# Altium integrated library TI Amplifiers and Linear Operational Amplifier High Speed.IntLib: 1100 symbols (part 43 of 44)
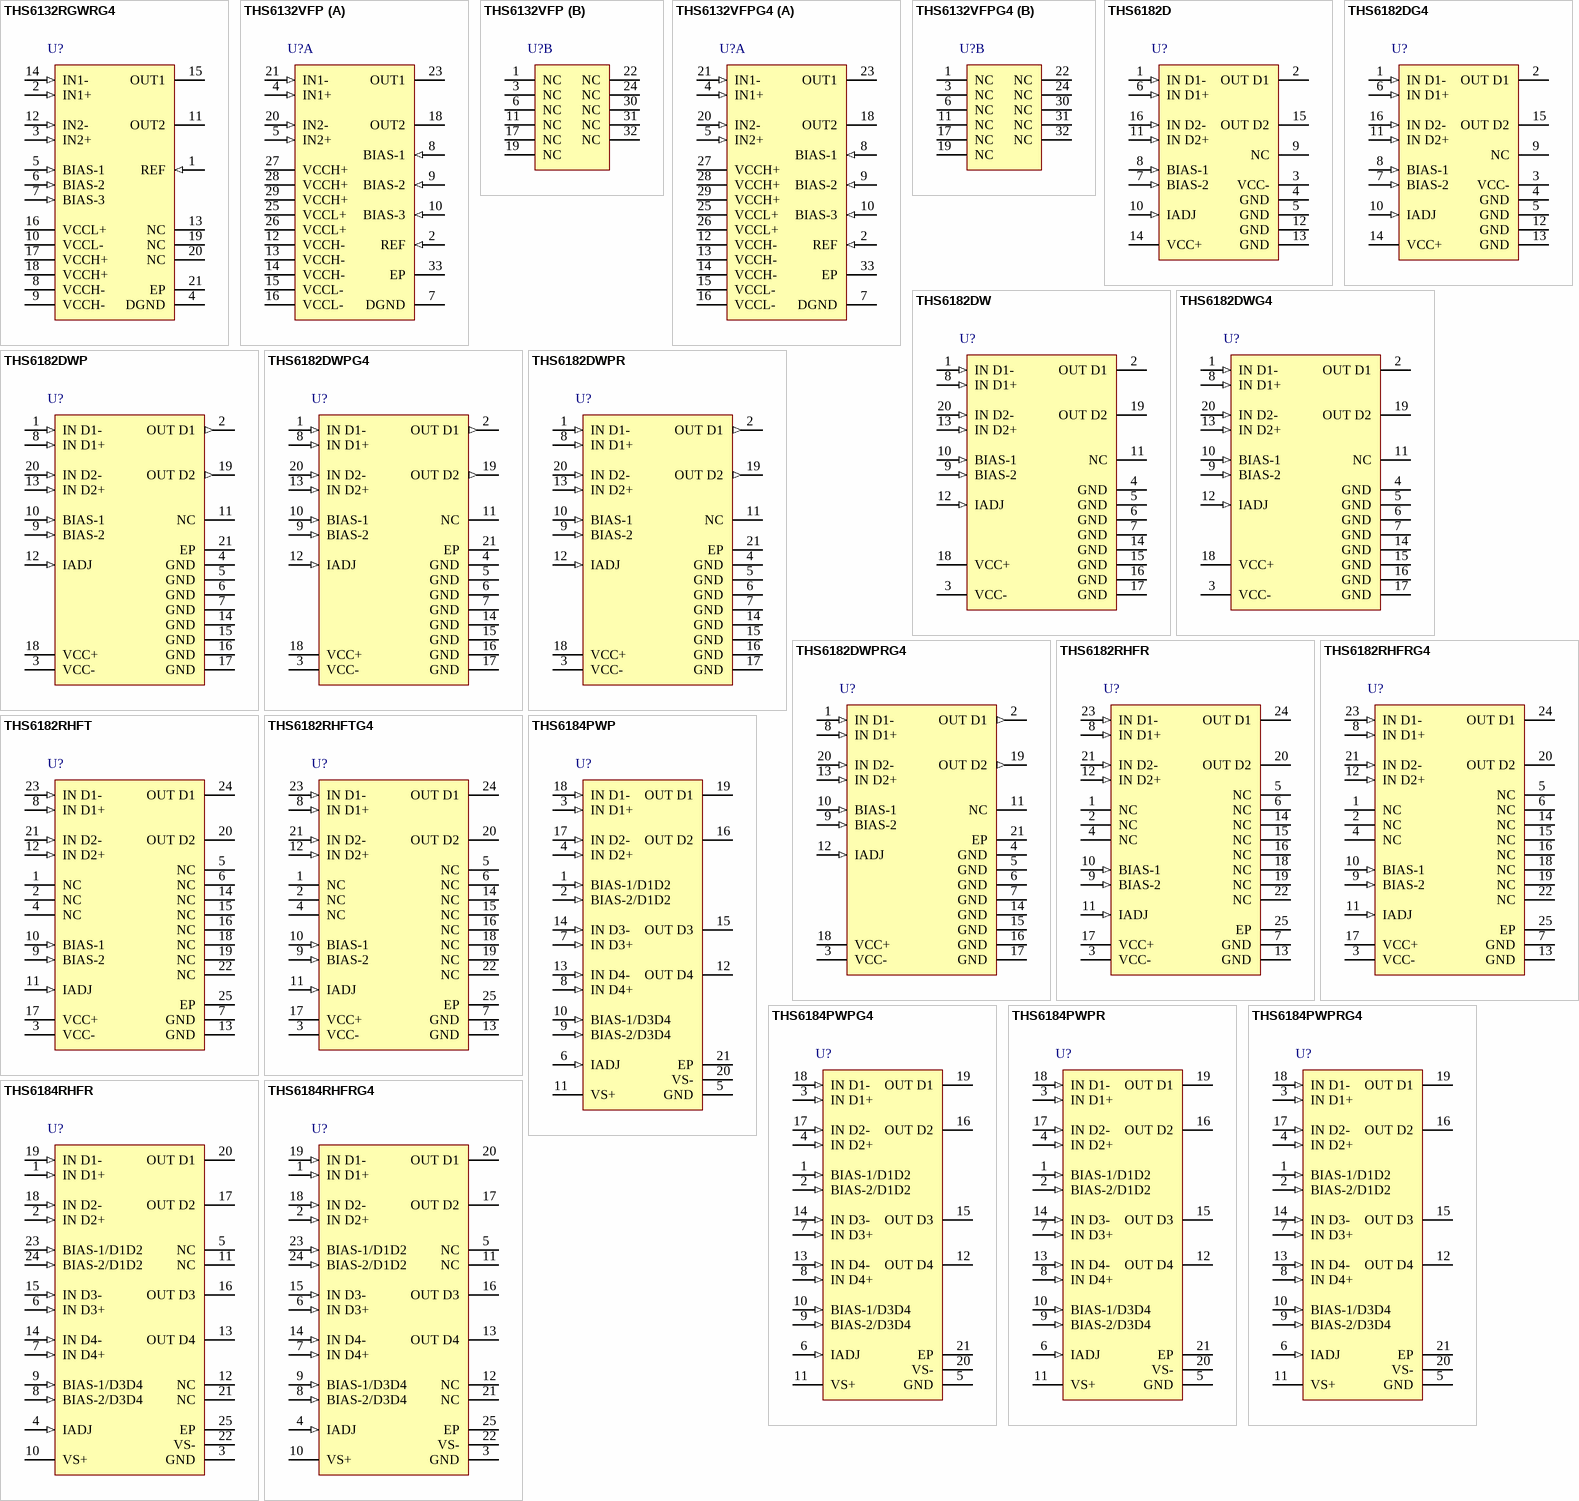
[diagram p93: symbols THS6132RGWRG4 to THS6184RHFRG4]

## THS6182RHFRG4
designator U?
Low Power Dissipation ADSL Line Driver, 10 to 30 V, -40 to 85 degC, 24-pin QFN (RHF24), Green (RoHS & no Sb/Br); Manufacturer: Texas Instruments; PartNumber: THS6182RHFRG4; 2nd Harmonic(dBc): 88; 3rd Harmonic(dBc): 107; @ MHz: 1; BW @ Acl(MHz): 100; Iib(Max)(nA): 20000; Io(Typ)(mA): 600; Iq per channel(Max)(mA): 12.5; Number of Channels: 2; Slew Rate(Typ)(V/us): 450; Sub Family: High Output Current Amplifier (>=50mA), High Speed Amplifier (>=50MHz), High Supply Voltage Amplifier (>=30V); THD (Fc is 1 MHz)(Typ)(dB): -88; Vio(Max)(mV): 20; Vn at Flatband(Typ)(nV/rtHz): 3.2; Vs(Max)(V): 30; Vs(Min)(V): 10; DatasheetVersion: SLLS544H; PackageVersion: 4204845-2/H, 06/2011; PackageReference: RHF24-3650X2650TP; PackageDescription: 24-Pin Plastic Flat Pack, Body 4 x 5 mm, Pitch 0.5 mm; Supplier 1: Digi-Key; Supplier Part Number 1: THS6182RHFRG4-ND; Supplier 2: Newark; Supplier Part Number 2: 85K1610; Supplier 3: Mouser; Supplier Part Number 3: 595-THS6182RHFRG4; Acl, min stable gain(V/V): 1; Eco-Plan: Green (RoHS & no Sb/Br); Mounting Technology: Surface Mount; Code_JEDEC: MO-220; ComponentLink1Description: Manufacturer URL; ComponentLink1URL: http://www.ti.com/; ComponentLink2Description: Datasheet; ComponentLink2URL: http://www.ti.com/general/docs/lit/getliterature.tsp?genericPartNumber=THS6182&fileType=pdf; ComponentLink3Description: Package Specification; ComponentLink3URL: http://www.ti.com/litv/pdf/mpqf137g
footprint TI-RHF24-3650X2650TP_V (QFN, 24-Leads, Body 5x4mm, Pitch 0.5mm, Thermal Pad 3.65x2.65mm)
pins: 1 NC, 2 NC, 3 VCC- (power), 4 NC, 5 NC, 6 NC, 7 GND (power), 8 IN D1+ (in), 9 BIAS-2 (in), 10 BIAS-1 (in), 11 IADJ (in), 12 IN D2+ (in), 13 GND (power), 14 NC, 15 NC, 16 NC, 17 VCC+ (power), 18 NC, 19 NC, 20 OUT D2 (hiz), 21 IN D2- (in), 22 NC, 23 IN D1- (in), 24 OUT D1 (hiz), 25 EP (power)

## THS6182RHFT
designator U?
Low Power Dissipation ADSL Line Driver, 10 to 30 V, -40 to 85 degC, 24-pin QFN (RHF24), Green (RoHS & no Sb/Br); Manufacturer: Texas Instruments; PartNumber: THS6182RHFT; 2nd Harmonic(dBc): 88; 3rd Harmonic(dBc): 107; @ MHz: 1; BW @ Acl(MHz): 100; Iib(Max)(nA): 20000; Io(Typ)(mA): 600; Iq per channel(Max)(mA): 12.5; Number of Channels: 2; Slew Rate(Typ)(V/us): 450; Sub Family: High Output Current Amplifier (>=50mA), High Speed Amplifier (>=50MHz), High Supply Voltage Amplifier (>=30V); THD (Fc is 1 MHz)(Typ)(dB): -88; Vio(Max)(mV): 20; Vn at Flatband(Typ)(nV/rtHz): 3.2; Vs(Max)(V): 30; Vs(Min)(V): 10; DatasheetVersion: SLLS544H; PackageVersion: 4204845-2/H, 06/2011; PackageReference: RHF24-3650X2650TP; PackageDescription: 24-Pin Plastic Flat Pack, Body 4 x 5 mm, Pitch 0.5 mm; Supplier 1: Digi-Key; Supplier Part Number 1: THS6182RHFT-ND; Supplier 2: Mouser; Supplier Part Number 2: 595-THS6182RHFT; Acl, min stable gain(V/V): 1; Eco-Plan: Green (RoHS & no Sb/Br); Mounting Technology: Surface Mount; Code_JEDEC: MO-220; ComponentLink1Description: Manufacturer URL; ComponentLink1URL: http://www.ti.com/; ComponentLink2Description: Datasheet; ComponentLink2URL: http://www.ti.com/general/docs/lit/getliterature.tsp?genericPartNumber=THS6182&fileType=pdf; ComponentLink3Description: Package Specification; ComponentLink3URL: http://www.ti.com/litv/pdf/mpqf137g
footprint TI-RHF24-3650X2650TP_V (QFN, 24-Leads, Body 5x4mm, Pitch 0.5mm, Thermal Pad 3.65x2.65mm)
pins: 1 NC, 2 NC, 3 VCC- (power), 4 NC, 5 NC, 6 NC, 7 GND (power), 8 IN D1+ (in), 9 BIAS-2 (in), 10 BIAS-1 (in), 11 IADJ (in), 12 IN D2+ (in), 13 GND (power), 14 NC, 15 NC, 16 NC, 17 VCC+ (power), 18 NC, 19 NC, 20 OUT D2 (hiz), 21 IN D2- (in), 22 NC, 23 IN D1- (in), 24 OUT D1 (hiz), 25 EP (power)

## THS6182RHFTG4
designator U?
Low Power Dissipation ADSL Line Driver, 10 to 30 V, -40 to 85 degC, 24-pin QFN (RHF24), Green (RoHS & no Sb/Br); Manufacturer: Texas Instruments; PartNumber: THS6182RHFTG4; 2nd Harmonic(dBc): 88; 3rd Harmonic(dBc): 107; @ MHz: 1; BW @ Acl(MHz): 100; Iib(Max)(nA): 15000; Io(Typ)(mA): 600; Iq per channel(Max)(mA): 12.5; Number of Channels: 2; Slew Rate(Typ)(V/us): 450; Sub Family: High Output Current Amplifier (>=50mA), High Speed Amplifier (>=50MHz), High Supply Voltage Amplifier (>=30V); THD (Fc is 1 MHz)(Typ)(dB): -88; Vio(Max)(mV): 20; Vn at Flatband(Typ)(nV/rtHz): 3.2; Vs(Max)(V): 30; Vs(Min)(V): 10; DatasheetVersion: SLLS544H; PackageVersion: 4204845-2/H, 06/2011; PackageReference: RHF24-3650X2650TP; PackageDescription: 24-Pin Plastic Flat Pack, Body 4 x 5 mm, Pitch 0.5 mm; Supplier 1: Digi-Key; Supplier Part Number 1: THS6182RHFTG4-ND; Supplier 2: Newark; Supplier Part Number 2: 54K0778; Supplier 3: Mouser; Supplier Part Number 3: 595-THS6182RHFTG4; Acl, min stable gain(V/V): 1; Eco-Plan: Green (RoHS & no Sb/Br); Mounting Technology: Surface Mount; Code_JEDEC: MO-220; ComponentLink1Description: Manufacturer URL; ComponentLink1URL: http://www.ti.com/; ComponentLink2Description: Datasheet; ComponentLink2URL: http://www.ti.com/general/docs/lit/getliterature.tsp?genericPartNumber=THS6182&fileType=pdf; ComponentLink3Description: Package Specification; ComponentLink3URL: http://www.ti.com/litv/pdf/mpqf137g
footprint TI-RHF24-3650X2650TP_V (QFN, 24-Leads, Body 5x4mm, Pitch 0.5mm, Thermal Pad 3.65x2.65mm)
pins: 1 NC, 2 NC, 3 VCC- (power), 4 NC, 5 NC, 6 NC, 7 GND (power), 8 IN D1+ (in), 9 BIAS-2 (in), 10 BIAS-1 (in), 11 IADJ (in), 12 IN D2+ (in), 13 GND (power), 14 NC, 15 NC, 16 NC, 17 VCC+ (power), 18 NC, 19 NC, 20 OUT D2 (hiz), 21 IN D2- (in), 22 NC, 23 IN D1- (in), 24 OUT D1 (hiz), 25 EP (power)

## THS6184PWP
designator U?
xDSL Line Driver, 8 to 32 V, -40 to 85 degC, 20-pin SOP (PWP20), Green (RoHS & no Sb/Br); Manufacturer: Texas Instruments; PartNumber: THS6184PWP; Acl, min stable gain(V/V): 1; BW @ Acl(MHz): 50; Iib(Max)(nA): 15; Io(Typ)(mA): 500; Iq per channel(Max)(mA): 4.2; Number of Channels: 4; Slew Rate(Typ)(V/us): 400; Sub Family: High Output Current Amplifier (>=50mA), High Speed Amplifier (>=50MHz); Vio(Max)(mV): 16; Vn at Flatband(Typ)(nV/rtHz): 2.9; DatasheetVersion: SLLS635D; PackageVersion: 4073225-4/I, 05/2011; PackageReference: PWP20-2965X2290TP; PackageDescription: 20-Pin Plastic Small Outline, Body 4.4 x 6.5 mm, Pitch 0.65 mm; Supplier 1: Digi-Key; Supplier Part Number 1: 296-21670-5-ND; Supplier 2: Farnell; Supplier Part Number 2: 1755442; Supplier 3: Newark; Supplier Part Number 3: 37M0029; Supplier 4: Mouser; Supplier Part Number 4: 595-THS6184PWP; Eco-Plan: Green (RoHS & no Sb/Br); Mounting Technology: Surface Mount; Code_JEDEC: MO-153; ComponentLink1Description: Manufacturer URL; ComponentLink1URL: http://www.ti.com/; ComponentLink2Description: Datasheet; ComponentLink2URL: http://www.ti.com/general/docs/lit/getliterature.tsp?genericPartNumber=THS6184&fileType=pdf; ComponentLink3Description: Package Specification; ComponentLink3URL: http://www.ti.com/litv/pdf/mhts001g
footprint TI-PWP20-2965X2290TP_N (SOP, 20-Leads, Body 6.5x4.4mm, Pitch 0.65mm, Thermal Pad 2.965x2.29mm, IPC Medium Density)
footprint TI-PWP20-2965X2290TP_L (SOP, 20-Leads, Body 6.5x4.4mm, Pitch 0.65mm, Thermal Pad 2.965x2.29mm, IPC High Density)
footprint TI-PWP20-2965X2290TP_M (SOP, 20-Leads, Body 6.5x4.4mm, Pitch 0.65mm, Thermal Pad 2.965x2.29mm, IPC Low Density)
pins: 1 BIAS-1/D1D2 (in), 2 BIAS-2/D1D2 (in), 3 IN D1+ (in), 4 IN D2+ (in), 5 GND (power), 6 IADJ (in), 7 IN D3+ (in), 8 IN D4+ (in), 9 BIAS-2/D3D4 (in), 10 BIAS-1/D3D4 (in), 11 VS+ (power), 12 OUT D4 (hiz), 13 IN D4- (in), 14 IN D3- (in), 15 OUT D3 (hiz), 16 OUT D2 (hiz), 17 IN D2- (in), 18 IN D1- (in), 19 OUT D1 (hiz), 20 VS- (power), 21 EP (power)

## THS6184PWPG4
designator U?
xDSL Line Driver, 8 to 32 V, -40 to 85 degC, 20-pin SOP (PWP20), Green (RoHS & no Sb/Br); Manufacturer: Texas Instruments; PartNumber: THS6184PWPG4; Acl, min stable gain(V/V): 1; BW @ Acl(MHz): 50; Iib(Max)(nA): 15; Io(Typ)(mA): 500; Iq per channel(Max)(mA): 4.2; Number of Channels: 4; Slew Rate(Typ)(V/us): 400; Sub Family: High Output Current Amplifier (>=50mA), High Speed Amplifier (>=50MHz); Vio(Max)(mV): 16; Vn at Flatband(Typ)(nV/rtHz): 2.9; DatasheetVersion: SLLS635D; PackageVersion: 4073225-4/I, 05/2011; PackageReference: PWP20-2965X2290TP; PackageDescription: 20-Pin Plastic Small Outline, Body 4.4 x 6.5 mm, Pitch 0.65 mm; Supplier 1: Digi-Key; Supplier Part Number 1: THS6184PWPG4-ND; Supplier 2: Mouser; Supplier Part Number 2: 595-THS6184PWPG4; Eco-Plan: Green (RoHS & no Sb/Br); Mounting Technology: Surface Mount; Code_JEDEC: MO-153; ComponentLink1Description: Manufacturer URL; ComponentLink1URL: http://www.ti.com/; ComponentLink2Description: Datasheet; ComponentLink2URL: http://www.ti.com/general/docs/lit/getliterature.tsp?genericPartNumber=THS6184&fileType=pdf; ComponentLink3Description: Package Specification; ComponentLink3URL: http://www.ti.com/litv/pdf/mhts001g
footprint TI-PWP20-2965X2290TP_N (SOP, 20-Leads, Body 6.5x4.4mm, Pitch 0.65mm, Thermal Pad 2.965x2.29mm, IPC Medium Density)
footprint TI-PWP20-2965X2290TP_L (SOP, 20-Leads, Body 6.5x4.4mm, Pitch 0.65mm, Thermal Pad 2.965x2.29mm, IPC High Density)
footprint TI-PWP20-2965X2290TP_M (SOP, 20-Leads, Body 6.5x4.4mm, Pitch 0.65mm, Thermal Pad 2.965x2.29mm, IPC Low Density)
pins: 1 BIAS-1/D1D2 (in), 2 BIAS-2/D1D2 (in), 3 IN D1+ (in), 4 IN D2+ (in), 5 GND (power), 6 IADJ (in), 7 IN D3+ (in), 8 IN D4+ (in), 9 BIAS-2/D3D4 (in), 10 BIAS-1/D3D4 (in), 11 VS+ (power), 12 OUT D4 (hiz), 13 IN D4- (in), 14 IN D3- (in), 15 OUT D3 (hiz), 16 OUT D2 (hiz), 17 IN D2- (in), 18 IN D1- (in), 19 OUT D1 (hiz), 20 VS- (power), 21 EP (power)

## THS6184PWPR
designator U?
xDSL Line Driver, 8 to 32 V, -40 to 85 degC, 20-pin SOP (PWP20), Green (RoHS & no Sb/Br); Manufacturer: Texas Instruments; PartNumber: THS6184PWPR; Acl, min stable gain(V/V): 1; BW @ Acl(MHz): 50; Iib(Max)(nA): 15; Io(Typ)(mA): 500; Iq per channel(Max)(mA): 4.2; Number of Channels: 4; Slew Rate(Typ)(V/us): 400; Sub Family: High Output Current Amplifier (>=50mA), High Speed Amplifier (>=50MHz); Vio(Max)(mV): 16; Vn at Flatband(Typ)(nV/rtHz): 2.9; DatasheetVersion: SLLS635D; PackageVersion: 4073225-4/I, 05/2011; PackageReference: PWP20-2965X2290TP; PackageDescription: 20-Pin Plastic Small Outline, Body 4.4 x 6.5 mm, Pitch 0.65 mm; Supplier 1: Digi-Key; Supplier Part Number 1: THS6184PWPR-ND; Supplier 2: Mouser; Supplier Part Number 2: 595-THS6184PWPR; Eco-Plan: Green (RoHS & no Sb/Br); Mounting Technology: Surface Mount; Code_JEDEC: MO-153; ComponentLink1Description: Manufacturer URL; ComponentLink1URL: http://www.ti.com/; ComponentLink2Description: Datasheet; ComponentLink2URL: http://www.ti.com/general/docs/lit/getliterature.tsp?genericPartNumber=THS6184&fileType=pdf; ComponentLink3Description: Package Specification; ComponentLink3URL: http://www.ti.com/litv/pdf/mhts001g
footprint TI-PWP20-2965X2290TP_N (SOP, 20-Leads, Body 6.5x4.4mm, Pitch 0.65mm, Thermal Pad 2.965x2.29mm, IPC Medium Density)
footprint TI-PWP20-2965X2290TP_L (SOP, 20-Leads, Body 6.5x4.4mm, Pitch 0.65mm, Thermal Pad 2.965x2.29mm, IPC High Density)
footprint TI-PWP20-2965X2290TP_M (SOP, 20-Leads, Body 6.5x4.4mm, Pitch 0.65mm, Thermal Pad 2.965x2.29mm, IPC Low Density)
pins: 1 BIAS-1/D1D2 (in), 2 BIAS-2/D1D2 (in), 3 IN D1+ (in), 4 IN D2+ (in), 5 GND (power), 6 IADJ (in), 7 IN D3+ (in), 8 IN D4+ (in), 9 BIAS-2/D3D4 (in), 10 BIAS-1/D3D4 (in), 11 VS+ (power), 12 OUT D4 (hiz), 13 IN D4- (in), 14 IN D3- (in), 15 OUT D3 (hiz), 16 OUT D2 (hiz), 17 IN D2- (in), 18 IN D1- (in), 19 OUT D1 (hiz), 20 VS- (power), 21 EP (power)

## THS6184PWPRG4
designator U?
xDSL Line Driver, 8 to 32 V, -40 to 85 degC, 20-pin SOP (PWP20), Green (RoHS & no Sb/Br); Manufacturer: Texas Instruments; PartNumber: THS6184PWPRG4; Acl, min stable gain(V/V): 1; BW @ Acl(MHz): 50; Iib(Max)(nA): 15; Io(Typ)(mA): 500; Iq per channel(Max)(mA): 4.2; Number of Channels: 4; Slew Rate(Typ)(V/us): 400; Sub Family: High Output Current Amplifier (>=50mA), High Speed Amplifier (>=50MHz); Vio(Max)(mV): 16; Vn at Flatband(Typ)(nV/rtHz): 2.9; DatasheetVersion: SLLS635D; PackageVersion: 4073225-4/I, 05/2011; PackageReference: PWP20-2965X2290TP; PackageDescription: 20-Pin Plastic Small Outline, Body 4.4 x 6.5 mm, Pitch 0.65 mm; Supplier 1: Digi-Key; Supplier Part Number 1: THS6184PWPRG4-ND; Supplier 2: Mouser; Supplier Part Number 2: 595-THS6184PWPRG4; Eco-Plan: Green (RoHS & no Sb/Br); Mounting Technology: Surface Mount; Code_JEDEC: MO-153; ComponentLink1Description: Manufacturer URL; ComponentLink1URL: http://www.ti.com/; ComponentLink2Description: Datasheet; ComponentLink2URL: http://www.ti.com/general/docs/lit/getliterature.tsp?genericPartNumber=THS6184&fileType=pdf; ComponentLink3Description: Package Specification; ComponentLink3URL: http://www.ti.com/litv/pdf/mhts001g
footprint TI-PWP20-2965X2290TP_N (SOP, 20-Leads, Body 6.5x4.4mm, Pitch 0.65mm, Thermal Pad 2.965x2.29mm, IPC Medium Density)
footprint TI-PWP20-2965X2290TP_L (SOP, 20-Leads, Body 6.5x4.4mm, Pitch 0.65mm, Thermal Pad 2.965x2.29mm, IPC High Density)
footprint TI-PWP20-2965X2290TP_M (SOP, 20-Leads, Body 6.5x4.4mm, Pitch 0.65mm, Thermal Pad 2.965x2.29mm, IPC Low Density)
pins: 1 BIAS-1/D1D2 (in), 2 BIAS-2/D1D2 (in), 3 IN D1+ (in), 4 IN D2+ (in), 5 GND (power), 6 IADJ (in), 7 IN D3+ (in), 8 IN D4+ (in), 9 BIAS-2/D3D4 (in), 10 BIAS-1/D3D4 (in), 11 VS+ (power), 12 OUT D4 (hiz), 13 IN D4- (in), 14 IN D3- (in), 15 OUT D3 (hiz), 16 OUT D2 (hiz), 17 IN D2- (in), 18 IN D1- (in), 19 OUT D1 (hiz), 20 VS- (power), 21 EP (power)

## THS6184RHFR
designator U?
xDSL Line Driver, 8 to 32 V, -40 to 85 degC, 24-pin QFN (RHF24), Green (RoHS & no Sb/Br); Manufacturer: Texas Instruments; PartNumber: THS6184RHFR; Acl, min stable gain(V/V): 1; BW @ Acl(MHz): 50; Iib(Max)(nA): 15; Io(Typ)(mA): 500; Iq per channel(Max)(mA): 4.2; Number of Channels: 4; Slew Rate(Typ)(V/us): 400; Sub Family: High Output Current Amplifier (>=50mA), High Speed Amplifier (>=50MHz); Vio(Max)(mV): 16; Vn at Flatband(Typ)(nV/rtHz): 2.9; DatasheetVersion: SLLS635D; PackageVersion: 4204845-2/H, 06/2011; PackageReference: RHF24-3650X2650TP; PackageDescription: 24-Pin Plastic Flat Pack, Body 4 x 5 mm, Pitch 0.5 mm; Supplier 1: Digi-Key; Supplier Part Number 1: THS6184RHFR-ND; Supplier 2: Newark; Supplier Part Number 2: 24K5087; Supplier 3: Mouser; Supplier Part Number 3: 595-THS6184RHFR; Eco-Plan: Green (RoHS & no Sb/Br); Mounting Technology: Surface Mount; Code_JEDEC: MO-220; ComponentLink1Description: Manufacturer URL; ComponentLink1URL: http://www.ti.com/; ComponentLink2Description: Datasheet; ComponentLink2URL: http://www.ti.com/general/docs/lit/getliterature.tsp?genericPartNumber=THS6184&fileType=pdf; ComponentLink3Description: Package Specification; ComponentLink3URL: http://www.ti.com/litv/pdf/mpqf137g
footprint TI-RHF24-3650X2650TP_V (QFN, 24-Leads, Body 5x4mm, Pitch 0.5mm, Thermal Pad 3.65x2.65mm)
pins: 1 IN D1+ (in), 2 IN D2+ (in), 3 GND (power), 4 IADJ (in), 5 NC, 6 IN D3+ (in), 7 IN D4+ (in), 8 BIAS-2/D3D4 (in), 9 BIAS-1/D3D4 (in), 10 VS+ (power), 11 NC, 12 NC, 13 OUT D4 (hiz), 14 IN D4- (in), 15 IN D3- (in), 16 OUT D3 (hiz), 17 OUT D2 (hiz), 18 IN D2- (in), 19 IN D1- (in), 20 OUT D1 (hiz), 21 NC, 22 VS- (power), 23 BIAS-1/D1D2 (in), 24 BIAS-2/D1D2 (in), 25 EP (power)

## THS6184RHFRG4
designator U?
xDSL Line Driver, 8 to 32 V, -40 to 85 degC, 24-pin QFN (RHF24), Green (RoHS & no Sb/Br); Manufacturer: Texas Instruments; PartNumber: THS6184RHFRG4; Acl, min stable gain(V/V): 1; BW @ Acl(MHz): 50; Iib(Max)(nA): 15; Io(Typ)(mA): 500; Iq per channel(Max)(mA): 4.2; Number of Channels: 4; Slew Rate(Typ)(V/us): 400; Sub Family: High Output Current Amplifier (>=50mA), High Speed Amplifier (>=50MHz); Vio(Max)(mV): 16; Vn at Flatband(Typ)(nV/rtHz): 2.9; DatasheetVersion: SLLS635D; PackageVersion: 4204845-2/H, 06/2011; PackageReference: RHF24-3650X2650TP; PackageDescription: 24-Pin Plastic Flat Pack, Body 4 x 5 mm, Pitch 0.5 mm; Supplier 1: Digi-Key; Supplier Part Number 1: THS6184RHFRG4-ND; Supplier 2: Mouser; Supplier Part Number 2: 595-THS6184RHFRG4; Eco-Plan: Green (RoHS & no Sb/Br); Mounting Technology: Surface Mount; Code_JEDEC: MO-220; ComponentLink1Description: Manufacturer URL; ComponentLink1URL: http://www.ti.com/; ComponentLink2Description: Datasheet; ComponentLink2URL: http://www.ti.com/general/docs/lit/getliterature.tsp?genericPartNumber=THS6184&fileType=pdf; ComponentLink3Description: Package Specification; ComponentLink3URL: http://www.ti.com/litv/pdf/mpqf137g
footprint TI-RHF24-3650X2650TP_V (QFN, 24-Leads, Body 5x4mm, Pitch 0.5mm, Thermal Pad 3.65x2.65mm)
pins: 1 IN D1+ (in), 2 IN D2+ (in), 3 GND (power), 4 IADJ (in), 5 NC, 6 IN D3+ (in), 7 IN D4+ (in), 8 BIAS-2/D3D4 (in), 9 BIAS-1/D3D4 (in), 10 VS+ (power), 11 NC, 12 NC, 13 OUT D4 (hiz), 14 IN D4- (in), 15 IN D3- (in), 16 OUT D3 (hiz), 17 OUT D2 (hiz), 18 IN D2- (in), 19 IN D1- (in), 20 OUT D1 (hiz), 21 NC, 22 VS- (power), 23 BIAS-1/D1D2 (in), 24 BIAS-2/D1D2 (in), 25 EP (power)

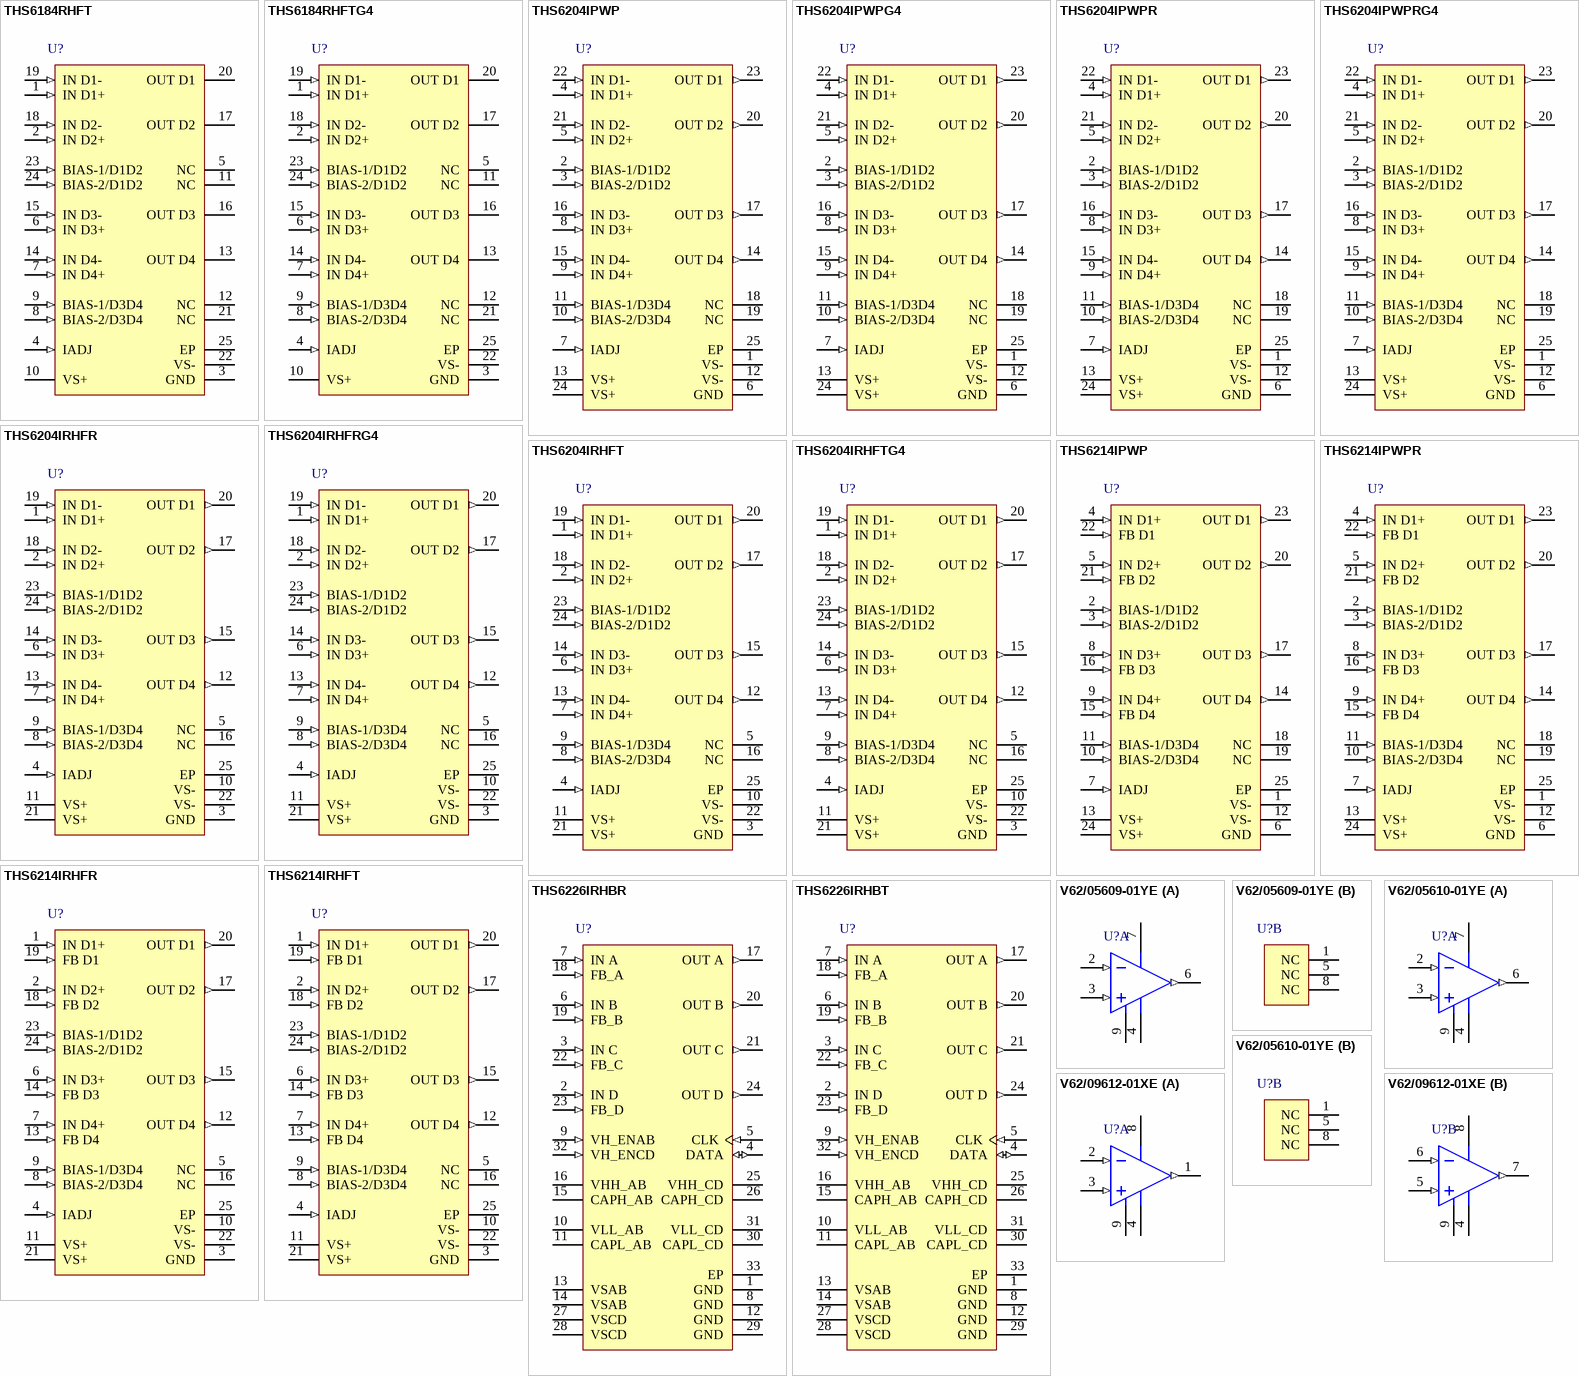
[diagram p51: symbols THS6184RHFT to V62/09612-01XE]

## THS6184RHFT
designator U?
xDSL Line Driver, 8 to 32 V, -40 to 85 degC, 24-pin QFN (RHF24), Green (RoHS & no Sb/Br); Manufacturer: Texas Instruments; PartNumber: THS6184RHFT; Acl, min stable gain(V/V): 1; BW @ Acl(MHz): 50; Iib(Max)(nA): 15; Io(Typ)(mA): 500; Iq per channel(Max)(mA): 4.2; Number of Channels: 4; Slew Rate(Typ)(V/us): 400; Sub Family: High Output Current Amplifier (>=50mA), High Speed Amplifier (>=50MHz); Vio(Max)(mV): 16; Vn at Flatband(Typ)(nV/rtHz): 2.9; DatasheetVersion: SLLS635D; PackageVersion: 4204845-2/H, 06/2011; PackageReference: RHF24-3650X2650TP; PackageDescription: 24-Pin Plastic Flat Pack, Body 4 x 5 mm, Pitch 0.5 mm; Supplier 1: Digi-Key; Supplier Part Number 1: 296-17862-2-ND; Supplier 2: Digi-Key; Supplier Part Number 2: 296-17862-1-ND; Supplier 3: Digi-Key; Supplier Part Number 3: 296-17862-6-ND; Supplier 4: Mouser; Supplier Part Number 4: 595-THS6184RHFT; Eco-Plan: Green (RoHS & no Sb/Br); Mounting Technology: Surface Mount; Code_JEDEC: MO-220; ComponentLink1Description: Manufacturer URL; ComponentLink1URL: http://www.ti.com/; ComponentLink2Description: Datasheet; ComponentLink2URL: http://www.ti.com/general/docs/lit/getliterature.tsp?genericPartNumber=THS6184&fileType=pdf; ComponentLink3Description: Package Specification; ComponentLink3URL: http://www.ti.com/litv/pdf/mpqf137g
footprint TI-RHF24-3650X2650TP_V (QFN, 24-Leads, Body 5x4mm, Pitch 0.5mm, Thermal Pad 3.65x2.65mm)
pins: 1 IN D1+ (in), 2 IN D2+ (in), 3 GND (power), 4 IADJ (in), 5 NC, 6 IN D3+ (in), 7 IN D4+ (in), 8 BIAS-2/D3D4 (in), 9 BIAS-1/D3D4 (in), 10 VS+ (power), 11 NC, 12 NC, 13 OUT D4 (hiz), 14 IN D4- (in), 15 IN D3- (in), 16 OUT D3 (hiz), 17 OUT D2 (hiz), 18 IN D2- (in), 19 IN D1- (in), 20 OUT D1 (hiz), 21 NC, 22 VS- (power), 23 BIAS-1/D1D2 (in), 24 BIAS-2/D1D2 (in), 25 EP (power)

## THS6184RHFTG4
designator U?
xDSL Line Driver, 8 to 32 V, -40 to 85 degC, 24-pin QFN (RHF24), Green (RoHS & no Sb/Br); Manufacturer: Texas Instruments; PartNumber: THS6184RHFTG4; 2nd Harmonic(dBc): 89; 3rd Harmonic(dBc): 85; @ MHz: 1; BW @ Acl(MHz): 50; Iib(Max)(nA): 15000; Io(Typ)(mA): 416; Iq per channel(Max)(mA): 4.2; Number of Channels: 4; Slew Rate(Typ)(V/us): 275; Sub Family: High Output Current Amplifier (>=50mA), High Speed Amplifier (>=50MHz); THD (Fc is 1 MHz)(Typ)(dB): -83; Vio(Max)(mV): 25; Vn at Flatband(Typ)(nV/rtHz): 3; Vs(Max)(V): 32; Vs(Min)(V): 8; DatasheetVersion: SLLS635D; PackageVersion: 4204845-2/H, 06/2011; PackageReference: RHF24-3650X2650TP; PackageDescription: 24-Pin Plastic Flat Pack, Body 4 x 5 mm, Pitch 0.5 mm; Supplier 1: Digi-Key; Supplier Part Number 1: THS6184RHFTG4-ND; Supplier 2: Mouser; Supplier Part Number 2: 595-THS6184RHFTG4; Acl, min stable gain(V/V): 1; Eco-Plan: Green (RoHS & no Sb/Br); Mounting Technology: Surface Mount; Code_JEDEC: MO-220; ComponentLink1Description: Manufacturer URL; ComponentLink1URL: http://www.ti.com/; ComponentLink2Description: Datasheet; ComponentLink2URL: http://www.ti.com/general/docs/lit/getliterature.tsp?genericPartNumber=THS6184&fileType=pdf; ComponentLink3Description: Package Specification; ComponentLink3URL: http://www.ti.com/litv/pdf/mpqf137g
footprint TI-RHF24-3650X2650TP_V (QFN, 24-Leads, Body 5x4mm, Pitch 0.5mm, Thermal Pad 3.65x2.65mm)
pins: 1 IN D1+ (in), 2 IN D2+ (in), 3 GND (power), 4 IADJ (in), 5 NC, 6 IN D3+ (in), 7 IN D4+ (in), 8 BIAS-2/D3D4 (in), 9 BIAS-1/D3D4 (in), 10 VS+ (power), 11 NC, 12 NC, 13 OUT D4 (hiz), 14 IN D4- (in), 15 IN D3- (in), 16 OUT D3 (hiz), 17 OUT D2 (hiz), 18 IN D2- (in), 19 IN D1- (in), 20 OUT D1 (hiz), 21 NC, 22 VS- (power), 23 BIAS-1/D1D2 (in), 24 BIAS-2/D1D2 (in), 25 EP (power)

## THS6204IPWP
designator U?
Dual Port VDSL2 Line Driver Amplifier, 10 to 28 V, -40 to 85 degC, 24-pin SOP (PWP24), Green (RoHS & no Sb/Br); Manufacturer: Texas Instruments; PartNumber: THS6204IPWP; 2nd Harmonic(dBc): 100; 3rd Harmonic(dBc): 89; @ MHz: 1; Acl, min stable gain(V/V): 2; BW @ Acl(MHz): 160; Iib(Max)(nA): 50000; Io(Typ)(mA): 416; Iq per channel(Max)(mA): 21; Slew Rate(Typ)(V/us): 3800; Sub Family: High Output Current Amplifier (>=50mA), High Speed Amplifier (>=50MHz); Vio(Max)(mV): 60; Vn at Flatband(Typ)(nV/rtHz): 2.5; Vs(Max)(V): 28; Vs(Min)(V): 10; DatasheetVersion: SBOS416C; PackageVersion: 4073225-5/I, 05/2011; PackageReference: PWP24-4420X1950TP; PackageDescription: 24-Pin Plastic Small Outline, Body 4.4 x 7.8 mm, Pitch 0.65 mm; Supplier 1: Digi-Key; Supplier Part Number 1: 296-23694-5-ND; Supplier 2: Farnell; Supplier Part Number 2: 1755276; Supplier 3: Mouser; Supplier Part Number 3: 595-THS6204IPWP; Eco-Plan: Green (RoHS & no Sb/Br); Number of Channels: 2; Mounting Technology: Surface Mount; Code_JEDEC: MO-153; ComponentLink1Description: Manufacturer URL; ComponentLink1URL: http://www.ti.com/; ComponentLink2Description: Datasheet; ComponentLink2URL: http://www.ti.com/general/docs/lit/getliterature.tsp?genericPartNumber=THS6204&fileType=pdf; ComponentLink3Description: Package Specification; ComponentLink3URL: http://www.ti.com/lit/ds/symlink/tps65101.pdf
footprint TI-PWP24-4420X1950TP_N (SOP, 24-Leads, Body 7.8x4.4mm, Pitch 0.65mm, Thermal Pad 4.42x1.95mm, IPC Medium Density)
footprint TI-PWP24-4420X1950TP_L (SOP, 24-Leads, Body 7.8x4.4mm, Pitch 0.65mm, Thermal Pad 4.42x1.95mm, IPC High Density)
footprint TI-PWP24-4420X1950TP_M (SOP, 24-Leads, Body 7.8x4.4mm, Pitch 0.65mm, Thermal Pad 4.42x1.95mm, IPC Low Density)
pins: 1 VS- (power), 2 BIAS-1/D1D2 (in), 3 BIAS-2/D1D2 (in), 4 IN D1+ (in), 5 IN D2+ (in), 6 GND (power), 7 IADJ (in), 8 IN D3+ (in), 9 IN D4+ (in), 10 BIAS-2/D3D4 (in), 11 BIAS-1/D3D4 (in), 12 VS- (power), 13 VS+ (power), 14 OUT D4 (out), 15 IN D4- (in), 16 IN D3- (in), 17 OUT D3 (out), 18 NC, 19 NC, 20 OUT D2 (out), 21 IN D2- (in), 22 IN D1- (in), 23 OUT D1 (out), 24 VS+ (power), 25 EP (power)

## THS6204IPWPG4
designator U?
Dual Port VDSL2 Line Driver Amplifier, 10 to 28 V, -40 to 85 degC, 24-pin SOP (PWP24), Green (RoHS & no Sb/Br); Manufacturer: Texas Instruments; PartNumber: THS6204IPWPG4; 2nd Harmonic(dBc): 100; 3rd Harmonic(dBc): 89; @ MHz: 1; Acl, min stable gain(V/V): 2; BW @ Acl(MHz): 160; Iib(Max)(nA): 50000; Io(Typ)(mA): 416; Iq per channel(Max)(mA): 21; Slew Rate(Typ)(V/us): 3800; Sub Family: High Output Current Amplifier (>=50mA), High Speed Amplifier (>=50MHz); Vio(Max)(mV): 60; Vn at Flatband(Typ)(nV/rtHz): 2.5; Vs(Max)(V): 28; Vs(Min)(V): 10; DatasheetVersion: SBOS416C; PackageVersion: 4073225-5/I, 05/2011; PackageReference: PWP24-4420X1950TP; PackageDescription: 24-Pin Plastic Small Outline, Body 4.4 x 7.8 mm, Pitch 0.65 mm; Supplier 1: Digi-Key; Supplier Part Number 1: THS6204IPWPG4-ND; Supplier 2: Newark; Supplier Part Number 2: 34P6383; Supplier 3: Mouser; Supplier Part Number 3: 595-THS6204IPWPG4; Eco-Plan: Green (RoHS & no Sb/Br); Number of Channels: 2; Mounting Technology: Surface Mount; Code_JEDEC: MO-153; ComponentLink1Description: Manufacturer URL; ComponentLink1URL: http://www.ti.com/; ComponentLink2Description: Datasheet; ComponentLink2URL: http://www.ti.com/general/docs/lit/getliterature.tsp?genericPartNumber=THS6204&fileType=pdf; ComponentLink3Description: Package Specification; ComponentLink3URL: http://www.ti.com/lit/ds/symlink/tps65101.pdf
footprint TI-PWP24-4420X1950TP_N (SOP, 24-Leads, Body 7.8x4.4mm, Pitch 0.65mm, Thermal Pad 4.42x1.95mm, IPC Medium Density)
footprint TI-PWP24-4420X1950TP_L (SOP, 24-Leads, Body 7.8x4.4mm, Pitch 0.65mm, Thermal Pad 4.42x1.95mm, IPC High Density)
footprint TI-PWP24-4420X1950TP_M (SOP, 24-Leads, Body 7.8x4.4mm, Pitch 0.65mm, Thermal Pad 4.42x1.95mm, IPC Low Density)
pins: 1 VS- (power), 2 BIAS-1/D1D2 (in), 3 BIAS-2/D1D2 (in), 4 IN D1+ (in), 5 IN D2+ (in), 6 GND (power), 7 IADJ (in), 8 IN D3+ (in), 9 IN D4+ (in), 10 BIAS-2/D3D4 (in), 11 BIAS-1/D3D4 (in), 12 VS- (power), 13 VS+ (power), 14 OUT D4 (out), 15 IN D4- (in), 16 IN D3- (in), 17 OUT D3 (out), 18 NC, 19 NC, 20 OUT D2 (out), 21 IN D2- (in), 22 IN D1- (in), 23 OUT D1 (out), 24 VS+ (power), 25 EP (power)

## THS6204IPWPR
designator U?
Dual Port VDSL2 Line Driver Amplifier, 10 to 28 V, -40 to 85 degC, 24-pin SOP (PWP24), Green (RoHS & no Sb/Br); Manufacturer: Texas Instruments; PartNumber: THS6204IPWPR; 2nd Harmonic(dBc): 100; 3rd Harmonic(dBc): 89; @ MHz: 1; Acl, min stable gain(V/V): 2; BW @ Acl(MHz): 160; Iib(Max)(nA): 50000; Io(Typ)(mA): 416; Iq per channel(Max)(mA): 21; Slew Rate(Typ)(V/us): 3800; Sub Family: High Output Current Amplifier (>=50mA), High Speed Amplifier (>=50MHz); Vio(Max)(mV): 60; Vn at Flatband(Typ)(nV/rtHz): 2.5; Vs(Max)(V): 28; Vs(Min)(V): 10; DatasheetVersion: SBOS416C; PackageVersion: 4073225-5/I, 05/2011; PackageReference: PWP24-4420X1950TP; PackageDescription: 24-Pin Plastic Small Outline, Body 4.4 x 7.8 mm, Pitch 0.65 mm; Supplier 1: Digi-Key; Supplier Part Number 1: THS6204IPWPR-ND; Supplier 2: Mouser; Supplier Part Number 2: 595-THS6204IPWPR; Eco-Plan: Green (RoHS & no Sb/Br); Number of Channels: 2; Mounting Technology: Surface Mount; Code_JEDEC: MO-153; ComponentLink1Description: Manufacturer URL; ComponentLink1URL: http://www.ti.com/; ComponentLink2Description: Datasheet; ComponentLink2URL: http://www.ti.com/general/docs/lit/getliterature.tsp?genericPartNumber=THS6204&fileType=pdf; ComponentLink3Description: Package Specification; ComponentLink3URL: http://www.ti.com/lit/ds/symlink/tps65101.pdf
footprint TI-PWP24-4420X1950TP_N (SOP, 24-Leads, Body 7.8x4.4mm, Pitch 0.65mm, Thermal Pad 4.42x1.95mm, IPC Medium Density)
footprint TI-PWP24-4420X1950TP_L (SOP, 24-Leads, Body 7.8x4.4mm, Pitch 0.65mm, Thermal Pad 4.42x1.95mm, IPC High Density)
footprint TI-PWP24-4420X1950TP_M (SOP, 24-Leads, Body 7.8x4.4mm, Pitch 0.65mm, Thermal Pad 4.42x1.95mm, IPC Low Density)
pins: 1 VS- (power), 2 BIAS-1/D1D2 (in), 3 BIAS-2/D1D2 (in), 4 IN D1+ (in), 5 IN D2+ (in), 6 GND (power), 7 IADJ (in), 8 IN D3+ (in), 9 IN D4+ (in), 10 BIAS-2/D3D4 (in), 11 BIAS-1/D3D4 (in), 12 VS- (power), 13 VS+ (power), 14 OUT D4 (out), 15 IN D4- (in), 16 IN D3- (in), 17 OUT D3 (out), 18 NC, 19 NC, 20 OUT D2 (out), 21 IN D2- (in), 22 IN D1- (in), 23 OUT D1 (out), 24 VS+ (power), 25 EP (power)

## THS6204IPWPRG4
designator U?
Dual Port VDSL2 Line Driver Amplifier, 10 to 28 V, -40 to 85 degC, 24-pin SOP (PWP24), Green (RoHS & no Sb/Br); Manufacturer: Texas Instruments; PartNumber: THS6204IPWPRG4; 2nd Harmonic(dBc): 100; 3rd Harmonic(dBc): 89; @ MHz: 1; Acl, min stable gain(V/V): 2; BW @ Acl(MHz): 160; Iib(Max)(nA): 50000; Io(Typ)(mA): 416; Iq per channel(Max)(mA): 21; Slew Rate(Typ)(V/us): 3800; Sub Family: High Output Current Amplifier (>=50mA), High Speed Amplifier (>=50MHz); Vio(Max)(mV): 60; Vn at Flatband(Typ)(nV/rtHz): 2.5; Vs(Max)(V): 28; Vs(Min)(V): 10; DatasheetVersion: SBOS416C; PackageVersion: 4073225-5/I, 05/2011; PackageReference: PWP24-4420X1950TP; PackageDescription: 24-Pin Plastic Small Outline, Body 4.4 x 7.8 mm, Pitch 0.65 mm; Supplier 1: Digi-Key; Supplier Part Number 1: THS6204IPWPRG4-ND; Supplier 2: Mouser; Supplier Part Number 2: 595-THS6204IPWPRG4; Eco-Plan: Green (RoHS & no Sb/Br); Number of Channels: 2; Mounting Technology: Surface Mount; Code_JEDEC: MO-153; ComponentLink1Description: Manufacturer URL; ComponentLink1URL: http://www.ti.com/; ComponentLink2Description: Datasheet; ComponentLink2URL: http://www.ti.com/general/docs/lit/getliterature.tsp?genericPartNumber=THS6204&fileType=pdf; ComponentLink3Description: Package Specification; ComponentLink3URL: http://www.ti.com/lit/ds/symlink/tps65101.pdf
footprint TI-PWP24-4420X1950TP_N (SOP, 24-Leads, Body 7.8x4.4mm, Pitch 0.65mm, Thermal Pad 4.42x1.95mm, IPC Medium Density)
footprint TI-PWP24-4420X1950TP_L (SOP, 24-Leads, Body 7.8x4.4mm, Pitch 0.65mm, Thermal Pad 4.42x1.95mm, IPC High Density)
footprint TI-PWP24-4420X1950TP_M (SOP, 24-Leads, Body 7.8x4.4mm, Pitch 0.65mm, Thermal Pad 4.42x1.95mm, IPC Low Density)
pins: 1 VS- (power), 2 BIAS-1/D1D2 (in), 3 BIAS-2/D1D2 (in), 4 IN D1+ (in), 5 IN D2+ (in), 6 GND (power), 7 IADJ (in), 8 IN D3+ (in), 9 IN D4+ (in), 10 BIAS-2/D3D4 (in), 11 BIAS-1/D3D4 (in), 12 VS- (power), 13 VS+ (power), 14 OUT D4 (out), 15 IN D4- (in), 16 IN D3- (in), 17 OUT D3 (out), 18 NC, 19 NC, 20 OUT D2 (out), 21 IN D2- (in), 22 IN D1- (in), 23 OUT D1 (out), 24 VS+ (power), 25 EP (power)

## THS6204IRHFR
designator U?
Dual Port VDSL2 Line Driver Amplifier, 10 to 28 V, -40 to 85 degC, 24-pin QFN (RHF24), Green (RoHS & no Sb/Br); Manufacturer: Texas Instruments; PartNumber: THS6204IRHFR; 2nd Harmonic(dBc): 100; 3rd Harmonic(dBc): 89; @ MHz: 1; Acl, min stable gain(V/V): 2; BW @ Acl(MHz): 160; Iib(Max)(nA): 50000; Io(Typ)(mA): 416; Iq per channel(Max)(mA): 21; Slew Rate(Typ)(V/us): 3800; Sub Family: High Output Current Amplifier (>=50mA), High Speed Amplifier (>=50MHz); Vio(Max)(mV): 60; Vn at Flatband(Typ)(nV/rtHz): 2.5; Vs(Max)(V): 28; Vs(Min)(V): 10; DatasheetVersion: SBOS416C; PackageVersion: 4204845-2/H, 06/2011; PackageReference: RHF24-3650X2650TP; PackageDescription: 24-Pin Plastic Flat Pack, Body 4 x 5 mm, Pitch 0.5 mm; Supplier 1: Digi-Key; Supplier Part Number 1: 296-23695-2-ND; Supplier 2: Digi-Key; Supplier Part Number 2: 296-23695-1-ND; Supplier 3: Digi-Key; Supplier Part Number 3: 296-23695-6-ND; Supplier 4: Mouser; Supplier Part Number 4: 595-THS6204IRHFR; Eco-Plan: Green (RoHS & no Sb/Br); Number of Channels: 2; Mounting Technology: Surface Mount; Code_JEDEC: MO-220; ComponentLink1Description: Manufacturer URL; ComponentLink1URL: http://www.ti.com/; ComponentLink2Description: Datasheet; ComponentLink2URL: http://www.ti.com/general/docs/lit/getliterature.tsp?genericPartNumber=THS6204&fileType=pdf; ComponentLink3Description: Package Specification; ComponentLink3URL: http://www.ti.com/litv/pdf/mpqf137g
footprint TI-RHF24-3650X2650TP_V (QFN, 24-Leads, Body 5x4mm, Pitch 0.5mm, Thermal Pad 3.65x2.65mm)
pins: 1 IN D1+ (in), 2 IN D2+ (in), 3 GND (power), 4 IADJ (in), 5 NC, 6 IN D3+ (in), 7 IN D4+ (in), 8 BIAS-2/D3D4 (in), 9 BIAS-1/D3D4 (in), 10 VS- (power), 11 VS+ (power), 12 OUT D4 (out), 13 IN D4- (in), 14 IN D3- (in), 15 OUT D3 (out), 16 NC, 17 OUT D2 (out), 18 IN D2- (in), 19 IN D1- (in), 20 OUT D1 (out), 21 VS+ (power), 22 VS- (power), 23 BIAS-1/D1D2 (in), 24 BIAS-2/D1D2 (in), 25 EP (power)

## THS6204IRHFRG4
designator U?
Dual Port VDSL2 Line Driver Amplifier, 10 to 28 V, -40 to 85 degC, 24-pin QFN (RHF24), Green (RoHS & no Sb/Br); Manufacturer: Texas Instruments; PartNumber: THS6204IRHFRG4; 2nd Harmonic(dBc): 100; 3rd Harmonic(dBc): 89; @ MHz: 1; Acl, min stable gain(V/V): 2; BW @ Acl(MHz): 160; Iib(Max)(nA): 50000; Io(Typ)(mA): 416; Iq per channel(Max)(mA): 21; Slew Rate(Typ)(V/us): 3800; Sub Family: High Output Current Amplifier (>=50mA), High Speed Amplifier (>=50MHz); Vio(Max)(mV): 60; Vn at Flatband(Typ)(nV/rtHz): 2.5; Vs(Max)(V): 28; Vs(Min)(V): 10; DatasheetVersion: SBOS416C; PackageVersion: 4204845-2/H, 06/2011; PackageReference: RHF24-3650X2650TP; PackageDescription: 24-Pin Plastic Flat Pack, Body 4 x 5 mm, Pitch 0.5 mm; Supplier 1: Digi-Key; Supplier Part Number 1: THS6204IRHFRG4-ND; Supplier 2: Mouser; Supplier Part Number 2: 595-THS6204IRHFRG4; Eco-Plan: Green (RoHS & no Sb/Br); Number of Channels: 2; Mounting Technology: Surface Mount; Code_JEDEC: MO-220; ComponentLink1Description: Manufacturer URL; ComponentLink1URL: http://www.ti.com/; ComponentLink2Description: Datasheet; ComponentLink2URL: http://www.ti.com/general/docs/lit/getliterature.tsp?genericPartNumber=THS6204&fileType=pdf; ComponentLink3Description: Package Specification; ComponentLink3URL: http://www.ti.com/litv/pdf/mpqf137g
footprint TI-RHF24-3650X2650TP_V (QFN, 24-Leads, Body 5x4mm, Pitch 0.5mm, Thermal Pad 3.65x2.65mm)
pins: 1 IN D1+ (in), 2 IN D2+ (in), 3 GND (power), 4 IADJ (in), 5 NC, 6 IN D3+ (in), 7 IN D4+ (in), 8 BIAS-2/D3D4 (in), 9 BIAS-1/D3D4 (in), 10 VS- (power), 11 VS+ (power), 12 OUT D4 (out), 13 IN D4- (in), 14 IN D3- (in), 15 OUT D3 (out), 16 NC, 17 OUT D2 (out), 18 IN D2- (in), 19 IN D1- (in), 20 OUT D1 (out), 21 VS+ (power), 22 VS- (power), 23 BIAS-1/D1D2 (in), 24 BIAS-2/D1D2 (in), 25 EP (power)

## THS6204IRHFT
designator U?
Dual Port VDSL2 Line Driver Amplifier, 10 to 28 V, -40 to 85 degC, 24-pin QFN (RHF24), Green (RoHS & no Sb/Br); Manufacturer: Texas Instruments; PartNumber: THS6204IRHFT; 2nd Harmonic(dBc): 100; 3rd Harmonic(dBc): 89; @ MHz: 1; Acl, min stable gain(V/V): 2; BW @ Acl(MHz): 160; Iib(Max)(nA): 50000; Io(Typ)(mA): 416; Iq per channel(Max)(mA): 21; Slew Rate(Typ)(V/us): 3800; Sub Family: High Output Current Amplifier (>=50mA), High Speed Amplifier (>=50MHz); Vio(Max)(mV): 60; Vn at Flatband(Typ)(nV/rtHz): 2.5; Vs(Max)(V): 28; Vs(Min)(V): 10; DatasheetVersion: SBOS416C; PackageVersion: 4204845-2/H, 06/2011; PackageReference: RHF24-3650X2650TP; PackageDescription: 24-Pin Plastic Flat Pack, Body 4 x 5 mm, Pitch 0.5 mm; Supplier 1: Digi-Key; Supplier Part Number 1: 296-24189-2-ND; Supplier 2: Digi-Key; Supplier Part Number 2: 296-24189-1-ND; Supplier 3: Digi-Key; Supplier Part Number 3: 296-24189-6-ND; Supplier 4: Mouser; Supplier Part Number 4: 595-THS6204IRHFT; Eco-Plan: Green (RoHS & no Sb/Br); Number of Channels: 2; Mounting Technology: Surface Mount; Code_JEDEC: MO-220; ComponentLink1Description: Manufacturer URL; ComponentLink1URL: http://www.ti.com/; ComponentLink2Description: Datasheet; ComponentLink2URL: http://www.ti.com/general/docs/lit/getliterature.tsp?genericPartNumber=THS6204&fileType=pdf; ComponentLink3Description: Package Specification; ComponentLink3URL: http://www.ti.com/litv/pdf/mpqf137g
footprint TI-RHF24-3650X2650TP_V (QFN, 24-Leads, Body 5x4mm, Pitch 0.5mm, Thermal Pad 3.65x2.65mm)
pins: 1 IN D1+ (in), 2 IN D2+ (in), 3 GND (power), 4 IADJ (in), 5 NC, 6 IN D3+ (in), 7 IN D4+ (in), 8 BIAS-2/D3D4 (in), 9 BIAS-1/D3D4 (in), 10 VS- (power), 11 VS+ (power), 12 OUT D4 (out), 13 IN D4- (in), 14 IN D3- (in), 15 OUT D3 (out), 16 NC, 17 OUT D2 (out), 18 IN D2- (in), 19 IN D1- (in), 20 OUT D1 (out), 21 VS+ (power), 22 VS- (power), 23 BIAS-1/D1D2 (in), 24 BIAS-2/D1D2 (in), 25 EP (power)

## THS6204IRHFTG4
designator U?
Dual Port VDSL2 Line Driver Amplifier, 10 to 28 V, -40 to 85 degC, 24-pin QFN (RHF24), Green (RoHS & no Sb/Br); Manufacturer: Texas Instruments; PartNumber: THS6204IRHFTG4; 2nd Harmonic(dBc): 100; 3rd Harmonic(dBc): 89; @ MHz: 1; Acl, min stable gain(V/V): 2; BW @ Acl(MHz): 160; Iib(Max)(nA): 50000; Io(Typ)(mA): 416; Iq per channel(Max)(mA): 21; Slew Rate(Typ)(V/us): 3800; Sub Family: High Output Current Amplifier (>=50mA), High Speed Amplifier (>=50MHz); Vio(Max)(mV): 60; Vn at Flatband(Typ)(nV/rtHz): 2.5; Vs(Max)(V): 28; Vs(Min)(V): 10; DatasheetVersion: SBOS416C; PackageVersion: 4204845-2/H, 06/2011; PackageReference: RHF24-3650X2650TP; PackageDescription: 24-Pin Plastic Flat Pack, Body 4 x 5 mm, Pitch 0.5 mm; Supplier 1: Digi-Key; Supplier Part Number 1: THS6204IRHFTG4-ND; Supplier 2: Mouser; Supplier Part Number 2: 595-THS6204IRHFTG4; Eco-Plan: Green (RoHS & no Sb/Br); Number of Channels: 2; Mounting Technology: Surface Mount; Code_JEDEC: MO-220; ComponentLink1Description: Manufacturer URL; ComponentLink1URL: http://www.ti.com/; ComponentLink2Description: Datasheet; ComponentLink2URL: http://www.ti.com/general/docs/lit/getliterature.tsp?genericPartNumber=THS6204&fileType=pdf; ComponentLink3Description: Package Specification; ComponentLink3URL: http://www.ti.com/litv/pdf/mpqf137g
footprint TI-RHF24-3650X2650TP_V (QFN, 24-Leads, Body 5x4mm, Pitch 0.5mm, Thermal Pad 3.65x2.65mm)
pins: 1 IN D1+ (in), 2 IN D2+ (in), 3 GND (power), 4 IADJ (in), 5 NC, 6 IN D3+ (in), 7 IN D4+ (in), 8 BIAS-2/D3D4 (in), 9 BIAS-1/D3D4 (in), 10 VS- (power), 11 VS+ (power), 12 OUT D4 (out), 13 IN D4- (in), 14 IN D3- (in), 15 OUT D3 (out), 16 NC, 17 OUT D2 (out), 18 IN D2- (in), 19 IN D1- (in), 20 OUT D1 (out), 21 VS+ (power), 22 VS- (power), 23 BIAS-1/D1D2 (in), 24 BIAS-2/D1D2 (in), 25 EP (power)

## THS6214IPWP
designator U?
Dual Port VDSL2 Line Driver Amplifier, 10 to 28 V, -40 to 85 degC, 24-pin SOP (PWP24), Green (RoHS & no Sb/Br); Manufacturer: Texas Instruments; PartNumber: THS6214IPWP; 2nd Harmonic(dBc): 100; 3rd Harmonic(dBc): 89; @ MHz: 1; Iib(Max)(nA): 3500; Io(Typ)(mA): 416; Iq per channel(Max)(mA): 22.5; Number of Channels: 2; Slew Rate(Typ)(V/us): 3800; Sub Family: High Output Current Amplifier (>=50mA), High Speed Amplifier (>=50MHz); Vio(Max)(mV): 50; Vn at Flatband(Typ)(nV/rtHz): 2.5; Vs(Max)(V): 28; Vs(Min)(V): 10; DatasheetVersion: SBOS431; PackageVersion: 4073225-5/I, 05/2011; PackageReference: PWP24-4820X1950TP; PackageDescription: 24-Pin Plastic Small Outline, Body 4.4 x 7.8 mm, Pitch 0.65 mm; Supplier 1: Digi-Key; Supplier Part Number 1: 296-24828-5-ND; Supplier 2: Farnell; Supplier Part Number 2: 1755421; Supplier 3: Mouser; Supplier Part Number 3: 595-THS6214IPWP; Acl, min stable gain(V/V): 1; Eco-Plan: Green (RoHS & no Sb/Br); Mounting Technology: Surface Mount; Code_JEDEC: MO-153; ComponentLink1Description: Manufacturer URL; ComponentLink1URL: http://www.ti.com/; ComponentLink2Description: Datasheet; ComponentLink2URL: http://www.ti.com/general/docs/lit/getliterature.tsp?genericPartNumber=THS6214&fileType=pdf; ComponentLink3Description: Package Specification; ComponentLink3URL: http://www.ti.com/litv/pdf/mpds372
footprint TI-PWP24-4820X1950TP_N (SOP, 24-Leads, Body 7.8x4.4mm, Pitch 0.65mm, Thermal Pad 4.87x2.4mm, IPC Medium Density)
footprint TI-PWP24-4820X1950TP_L (SOP, 24-Leads, Body 7.8x4.4mm, Pitch 0.65mm, Thermal Pad 4.87x2.4mm, IPC High Density)
footprint TI-PWP24-4820X1950TP_M (SOP, 24-Leads, Body 7.8x4.4mm, Pitch 0.65mm, Thermal Pad 4.87x2.4mm, IPC Low Density)
pins: 1 VS- (power), 2 BIAS-1/D1D2 (in), 3 BIAS-2/D1D2 (in), 4 IN D1+ (in), 5 IN D2+ (in), 6 GND (power), 7 IADJ (in), 8 IN D3+ (in), 9 IN D4+ (in), 10 BIAS-2/D3D4 (in), 11 BIAS-1/D3D4 (in), 12 VS- (power), 13 VS+ (power), 14 OUT D4 (out), 15 FB D4 (in), 16 FB D3 (in), 17 OUT D3 (out), 18 NC, 19 NC, 20 OUT D2 (out), 21 FB D2 (in), 22 FB D1 (in), 23 OUT D1 (out), 24 VS+ (power), 25 EP (power)

## THS6214IPWPR
designator U?
Dual Port VDSL2 Line Driver Amplifier, 10 to 28 V, -40 to 85 degC, 24-pin SOP (PWP24), Green (RoHS & no Sb/Br); Manufacturer: Texas Instruments; PartNumber: THS6214IPWPR; 2nd Harmonic(dBc): 100; 3rd Harmonic(dBc): 89; @ MHz: 1; Iib(Max)(nA): 3500; Io(Typ)(mA): 416; Iq per channel(Max)(mA): 22.5; Number of Channels: 2; Slew Rate(Typ)(V/us): 3800; Sub Family: High Output Current Amplifier (>=50mA), High Speed Amplifier (>=50MHz); Vio(Max)(mV): 50; Vn at Flatband(Typ)(nV/rtHz): 2.5; Vs(Max)(V): 28; Vs(Min)(V): 10; DatasheetVersion: SBOS431; PackageVersion: 4073225-5/I, 05/2011; PackageReference: PWP24-4820X1950TP; PackageDescription: 24-Pin Plastic Small Outline, Body 4.4 x 7.8 mm, Pitch 0.65 mm; Supplier 1: Digi-Key; Supplier Part Number 1: THS6214IPWPR-ND; Supplier 2: Newark; Supplier Part Number 2: 24R9981; Supplier 3: Mouser; Supplier Part Number 3: 595-THS6214IPWPR; Acl, min stable gain(V/V): 1; Eco-Plan: Green (RoHS & no Sb/Br); Mounting Technology: Surface Mount; Code_JEDEC: MO-153; ComponentLink1Description: Manufacturer URL; ComponentLink1URL: http://www.ti.com/; ComponentLink2Description: Datasheet; ComponentLink2URL: http://www.ti.com/general/docs/lit/getliterature.tsp?genericPartNumber=THS6214&fileType=pdf; ComponentLink3Description: Package Specification; ComponentLink3URL: http://www.ti.com/litv/pdf/mpds372
footprint TI-PWP24-4820X1950TP_N (SOP, 24-Leads, Body 7.8x4.4mm, Pitch 0.65mm, Thermal Pad 4.87x2.4mm, IPC Medium Density)
footprint TI-PWP24-4820X1950TP_L (SOP, 24-Leads, Body 7.8x4.4mm, Pitch 0.65mm, Thermal Pad 4.87x2.4mm, IPC High Density)
footprint TI-PWP24-4820X1950TP_M (SOP, 24-Leads, Body 7.8x4.4mm, Pitch 0.65mm, Thermal Pad 4.87x2.4mm, IPC Low Density)
pins: 1 VS- (power), 2 BIAS-1/D1D2 (in), 3 BIAS-2/D1D2 (in), 4 IN D1+ (in), 5 IN D2+ (in), 6 GND (power), 7 IADJ (in), 8 IN D3+ (in), 9 IN D4+ (in), 10 BIAS-2/D3D4 (in), 11 BIAS-1/D3D4 (in), 12 VS- (power), 13 VS+ (power), 14 OUT D4 (out), 15 FB D4 (in), 16 FB D3 (in), 17 OUT D3 (out), 18 NC, 19 NC, 20 OUT D2 (out), 21 FB D2 (in), 22 FB D1 (in), 23 OUT D1 (out), 24 VS+ (power), 25 EP (power)

## THS6214IRHFR
designator U?
Dual Port VDSL2 Line Driver Amplifier, 10 to 28 V, -40 to 85 degC, 24-pin QFN (RHF24), Green (RoHS & no Sb/Br); Manufacturer: Texas Instruments; PartNumber: THS6214IRHFR; 2nd Harmonic(dBc): 100; 3rd Harmonic(dBc): 89; @ MHz: 1; Iib(Max)(nA): 3500; Io(Typ)(mA): 416; Iq per channel(Max)(mA): 22.5; Number of Channels: 2; Slew Rate(Typ)(V/us): 3800; Sub Family: High Output Current Amplifier (>=50mA), High Speed Amplifier (>=50MHz); Vio(Max)(mV): 50; Vn at Flatband(Typ)(nV/rtHz): 2.5; Vs(Max)(V): 28; Vs(Min)(V): 10; DatasheetVersion: SBOS431; PackageVersion: 4204845-2/H, 06/2011; PackageReference: RHF24-3650X2650TP; PackageDescription: 24-Pin Plastic Flat Pack, Body 4 x 5 mm, Pitch 0.5 mm; Supplier 1: Digi-Key; Supplier Part Number 1: 296-24829-2-ND; Supplier 2: Digi-Key; Supplier Part Number 2: 296-24829-1-ND; Supplier 3: Digi-Key; Supplier Part Number 3: 296-24829-6-ND; Supplier 4: Mouser; Supplier Part Number 4: 595-THS6214IRHFR; Acl, min stable gain(V/V): 1; Eco-Plan: Green (RoHS & no Sb/Br); Mounting Technology: Surface Mount; Code_JEDEC: MO-220; ComponentLink1Description: Manufacturer URL; ComponentLink1URL: http://www.ti.com/; ComponentLink2Description: Datasheet; ComponentLink2URL: http://www.ti.com/general/docs/lit/getliterature.tsp?genericPartNumber=THS6214&fileType=pdf; ComponentLink3Description: Package Specification; ComponentLink3URL: http://www.ti.com/litv/pdf/mpqf137g
footprint TI-RHF24-3650X2650TP_V (QFN, 24-Leads, Body 5x4mm, Pitch 0.5mm, Thermal Pad 3.65x2.65mm)
pins: 1 IN D1+ (in), 2 IN D2+ (in), 3 GND (power), 4 IADJ (in), 5 NC, 6 IN D3+ (in), 7 IN D4+ (in), 8 BIAS-2/D3D4 (in), 9 BIAS-1/D3D4 (in), 10 VS- (power), 11 VS+ (power), 12 OUT D4 (out), 13 FB D4 (in), 14 FB D3 (in), 15 OUT D3 (out), 16 NC, 17 OUT D2 (out), 18 FB D2 (in), 19 FB D1 (in), 20 OUT D1 (out), 21 VS+ (power), 22 VS- (power), 23 BIAS-1/D1D2 (in), 24 BIAS-2/D1D2 (in), 25 EP (power)

## THS6214IRHFT
designator U?
Dual Port VDSL2 Line Driver Amplifier, 10 to 28 V, -40 to 85 degC, 24-pin QFN (RHF24), Green (RoHS & no Sb/Br); Manufacturer: Texas Instruments; PartNumber: THS6214IRHFT; 2nd Harmonic(dBc): 100; 3rd Harmonic(dBc): 89; @ MHz: 1; Iib(Max)(nA): 3500; Io(Typ)(mA): 416; Iq per channel(Max)(mA): 22.5; Number of Channels: 2; Slew Rate(Typ)(V/us): 3800; Sub Family: High Output Current Amplifier (>=50mA), High Speed Amplifier (>=50MHz); Vio(Max)(mV): 50; Vn at Flatband(Typ)(nV/rtHz): 2.7; Vs(Max)(V): 28; Vs(Min)(V): 10; DatasheetVersion: SBOS431; PackageVersion: 4204845-2/H, 06/2011; PackageReference: RHF24-3650X2650TP; PackageDescription: 24-Pin Plastic Flat Pack, Body 4 x 5 mm, Pitch 0.5 mm; Supplier 1: Digi-Key; Supplier Part Number 1: 296-28733-2-ND; Supplier 2: Digi-Key; Supplier Part Number 2: 296-28733-1-ND; Supplier 3: Digi-Key; Supplier Part Number 3: 296-28733-6-ND; Supplier 4: Mouser; Supplier Part Number 4: 595-THS6214IRHFT; Acl, min stable gain(V/V): 1; Eco-Plan: Green (RoHS & no Sb/Br); Mounting Technology: Surface Mount; Code_JEDEC: MO-220; ComponentLink1Description: Manufacturer URL; ComponentLink1URL: http://www.ti.com/; ComponentLink2Description: Datasheet; ComponentLink2URL: http://www.ti.com/general/docs/lit/getliterature.tsp?genericPartNumber=THS6214&fileType=pdf; ComponentLink3Description: Package Specification; ComponentLink3URL: http://www.ti.com/litv/pdf/mpqf137g
footprint TI-RHF24-3650X2650TP_V (QFN, 24-Leads, Body 5x4mm, Pitch 0.5mm, Thermal Pad 3.65x2.65mm)
pins: 1 IN D1+ (in), 2 IN D2+ (in), 3 GND (power), 4 IADJ (in), 5 NC, 6 IN D3+ (in), 7 IN D4+ (in), 8 BIAS-2/D3D4 (in), 9 BIAS-1/D3D4 (in), 10 VS- (power), 11 VS+ (power), 12 OUT D4 (out), 13 FB D4 (in), 14 FB D3 (in), 15 OUT D3 (out), 16 NC, 17 OUT D2 (out), 18 FB D2 (in), 19 FB D1 (in), 20 OUT D1 (out), 21 VS+ (power), 22 VS- (power), 23 BIAS-1/D1D2 (in), 24 BIAS-2/D1D2 (in), 25 EP (power)

## THS6226IRHBR
designator U?
Class H, Fixed Gain VDSL2 Dual Port Low-Power xDSL Line Driver, 10 to 12.5 V, -40 to 85 degC, 32-pin QFN (RHB32), Green (RoHS & no Sb/Br); Manufacturer: Texas Instruments; PartNumber: THS6226IRHBR; 2nd Harmonic(dBc): 91; @ MHz: 1; Acl, min stable gain(V/V): 19; BW @ Acl(MHz): 125; Io(Typ)(mA): 383; Iq per channel(Max)(mA): 24.5; Number of Channels: 2; Slew Rate(Typ)(V/us): 1500; Sub Family: High Output Current Amplifier (>=50mA), High Speed Amplifier (>=50MHz); THD (Fc is 1 MHz)(Typ)(dB): -88; Vio(Max)(mV): 6; Vn at Flatband(Typ)(nV/rtHz): 6.3; Vs(Max)(V): 12.5; Vs(Min)(V): 10; DatasheetVersion: SBOS499C; PackageVersion: 4204326/D, 06/2011; PackageReference: RHB32-3450X3450TP; PackageDescription: 32-Pin Plastic Flat Pack, Body 5 x 5 mm, Pitch 0.5 mm; Supplier 1: Digi-Key; Supplier Part Number 1: THS6226IRHBR-ND; Supplier 2: Mouser; Supplier Part Number 2: 595-THS6226IRHBR; 3rd Harmonic(dBc): 91; Eco-Plan: Green (RoHS & no Sb/Br); Mounting Technology: Surface Mount; Code_JEDEC: MO-220; ComponentLink1Description: Manufacturer URL; ComponentLink1URL: http://www.ti.com/; ComponentLink2Description: Datasheet; ComponentLink2URL: http://www.ti.com/general/docs/lit/getliterature.tsp?genericPartNumber=THS6226&fileType=pdf; ComponentLink3Description: Package Specification; ComponentLink3URL: http://www.ti.com/lit/ml/mpqf130c/mpqf130c.pdf
footprint TI-RHB32-3450X3450TP_V (QFN, 32-Leads, Body 5x5mm, Pitch 0.5mm, Thermal Pad 3.45x3.45mm)
pins: 1 GND (power) "Analog ground", 2 IN D (in) "Input D of amplifier CD", 3 IN C (in) "Input C of amplifier CD", 4 DATA (io) "Serial interface data pin", 5 CLK (in) "Serial interface CLK pin", 6 IN B (in) "Input B of amplifier AB", 7 IN A (in) "Input A of amplifier AB", 8 GND (power) "Analog ground", 9 VH_ENAB (in) "Class H mode control pin for amplifier AB", 10 VLL_AB "Amplifier AB low pump supply", 11 CAPL_AB "Amplifier AB negative voltage pump capacitor pin", 12 GND (power) "Analog ground", 13 VSAB (power) "Amplifier AB supply voltage", 14 VSAB (power) "Amplifier AB supply voltage", 15 CAPH_AB "Amplifier AB positive voltage pump capacitor pin", 16 VHH_AB "Amplifier AB high pump supply", 17 OUT A (out) "Output A of amplifier AB", 18 FB_A (in) "Feedback for active output impedance of amplifier AB", 19 FB_B (in) "Feedback for active output impedance of amplifier AB", 20 OUT B (out) "Output B of amplifier AB", 21 OUT C (out) "Output C of amplifier CD", 22 FB_C (in) "Feedback for active output impedance of amplifier CD", 23 FB_D (in) "Feedback for active output impedance of amplifier CD", 24 OUT D (out) "Output D of amplifier CD", 25 VHH_CD "Amplifier CD high pump supply", 26 CAPH_CD "Amplifier CD positive voltage pump capacitor pin", 27 VSCD (power) "Amplifier CD supply voltage", 28 VSCD (power) "Amplifier CD supply voltage", 29 GND (power) "Analog ground", 30 CAPL_CD "Amplifier CD negative voltage pump capacitor pin", 31 VLL_CD "Amplifier CD low pump supply", 32 VH_ENCD (in) "Class H mode control pin for amplifier CD", 33 EP (power)